# Altium footprint library Power_Footprints.PcbLib: 24 footprints (part 1 of 2)
Each footprint in its own frame and in the unit in brackets; x right, y up, seen from the top. Pads: shape width x height; smd on the part's side, far side on the other; paste and mask are expansions set on the pad; w line width, h text height; cw(c..) or ccw(c..) is an arc to the next point about the centre after c.
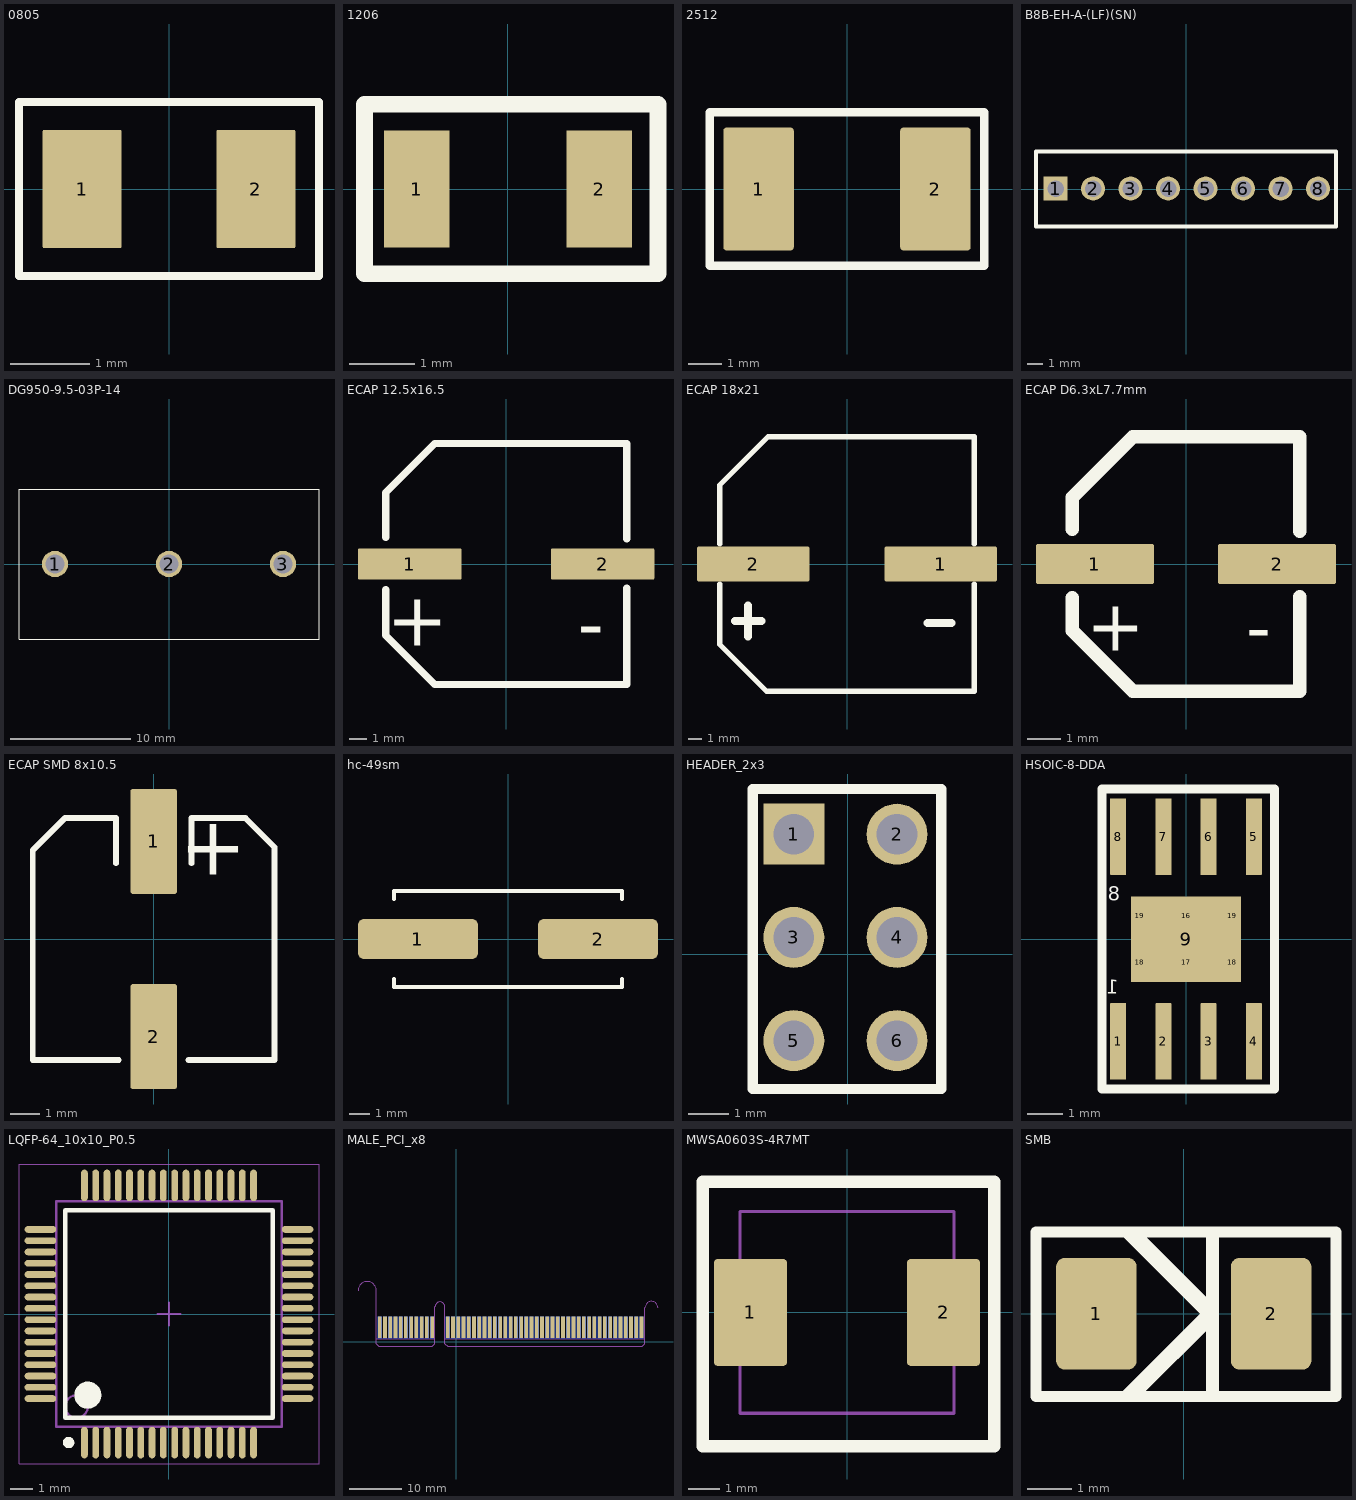
[diagram p0: the footprints below, top view; thin cyan lines are the x and y axes]

## 0805 [mm]
pads (2):
  rrect4% 1x1.5 smd: 1(-1.1,0) 2(1.1,0)
Top Overlay:
  lines w0.1: -1.9,-1.1 1.9,-1.1 1.9,1.1 -1.9,1.1 -1.9,-1.1

## 1206 [mm]
pads (2):
  rect 1x1.8 smd: 1(-1.4,0) 2(1.4,0)
Top Overlay:
  lines w0.254: -2.2,-1.3 2.3,-1.3 2.3,1.3 -2.2,1.3 -2.2,-1.3

## 2512 [mm] "Shunt"
pads (2):
  rrect10% 2.11x3.68 smd: 1(-2.645,0) 2(2.645,0)
Top Overlay:
  lines w0.254: -4.1,-2.3 4.1,-2.3 4.1,2.3 -4.1,2.3 -4.1,-2.3

## B8B-EH-A-(LF)(SN) [mm] "M-JST 8 pin"
pads (8):
  rect 1.6x1.6 hole 1.1: 1(-8.694,0.024)
  round 1.6 hole 1.1: 2(-6.194,0.024) 3(-3.694,0.024) 4(-1.194,0.024) 5(1.306,0.024) 6(3.806,0.024) 7(6.306,0.024) 8(8.806,0.024)
Top Overlay:
  lines w0.254: -10,-2.5 10,-2.5 10,2.5 -10,2.5 -10,-2.5

## DG950-9.5-03P-14 [mm]
pads (3):
  round 2.2 hole 1.6: 1(-9.5,0) 2(0,0) 3(9.5,0)
Top Overlay:
  lines w0.1: -12.5,-6.25 12.5,-6.25 12.5,6.25 -12.5,6.25 -12.5,-6.25

## ECAP 12.5x16.5 [mm]
pads (2):
  rrect10% 5.8x1.75 smd: 1(-5.4,0) 2(5.4,0)
Top Overlay:
  lines w0.4: -6.75,-1.425 -6.75,-4 -4,-6.75 6.75,-6.75 6.75,-1.35 ; -6.75,1.5 -6.75,4 -4,6.75 6.75,6.75 6.75,1.4
  text "+" at -3.25,-4.575 h3
  text "-" at 5.5,-4.8 h3

## ECAP 18x21 [mm] "470uF"
pads (2):
  rrect10% 8.4x2.6 smd: 1(7,0) 2(-7,0)
Top Overlay:
  lines w0.4: -9.5,-1.5 -9.5,-6 -6,-9.5 9.5,-9.5 9.5,-1.5 ; -9.5,1.5 -9.5,5.9 -5.9,9.5 9.5,9.5 9.5,1.5
  lines w0.6: -8.35,-4.25 -7.4,-4.25 -6.4,-4.25 ; -7.4,-5.4 -7.4,-3.1 ; 6,-4.4 7.8,-4.4

## ECAP D6.3xL7.7mm [mm]
pads (2):
  rrect10% 3.5x1.2 smd: 1(-2.7,0) 2(2.7,0)
Top Overlay:
  lines w0.4: -3.375,-1 -3.375,-1.975 -1.575,-3.775 3.375,-3.775 3.375,-0.975 ; -3.375,1.025 -3.375,1.975 -1.575,3.775 3.375,3.775 3.375,0.975
  text "+" at -1.225,-2.575 h1.5
  text "-" at 2.525,-2.625 h1.5

## ECAP SMD 8x10.5 [mm] "8x10.5"
pads (2):
  rrect10% 1.6x3.6 smd: 1(0,3.35) 2(0,-3.35)
Top Overlay:
  lines w0.2: -1.3,2.6 -1.3,4.15 -3.05,4.15 -4.15,3.05 -4.15,-4.15 -1.2,-4.15 ; 1.2,-4.15 3.112,-4.15 4.15,-4.15 4.15,0 4.15,3.15 3.15,4.15 1.3,4.15 1.3,2.6
  text "+" at 3.2,2.2 h2

## hc-49sm [mm]
pads (2):
  rrect30% 6x2 smd: 1(-4.5,0) 2(4.5,0)
Top Overlay:
  lines w0.2: -5.7,-2 -5.7,-2.4 5.7,-2.4 5.7,-2 ; -5.7,2 -5.7,2.4 5.7,2.4 5.7,2

## HEADER_2x3 [mm]
pads (6):
  rect 1.5x1.5 / inner round 1.5 / far side round 1.5 hole 1: 1(-1.33,2.955)
  round 1.5 hole 1: 2(1.21,2.955) 3(-1.33,0.415) 4(1.21,0.415) 5(-1.33,-2.125) 6(1.21,-2.125)
Top Overlay:
  lines w0.254: -2.337,-3.314 2.296,-3.314 2.296,4.068 -2.337,4.068 -2.337,-3.314

## HSOIC-8-DDA [mm] "HSIOC8 with thermal pad"
pads (15):
  rrect8% 0.45x2.15 smd: 1(-1.905,-2.875) 2(-0.635,-2.875) 3(0.635,-2.875) 4(1.905,-2.875) 5(1.905,2.875) 6(0.635,2.875) 7(-0.635,2.875) 8(-1.905,2.875)
  rrect1% 3.1x2.4 smd: 9(0,0)
  round 0.33 on Mech2: 16(0,0.65) 17(0,-0.65) 18(-1.3,-0.65) 18(1.3,-0.65) 19(-1.3,0.65) 19(1.3,0.65)
Top Overlay:
  lines w0.254: -2.355,-4.21 2.48,-4.21 2.48,4.215 -2.355,4.215 -2.355,-4.21
  text "8" at -1.845,1.08 h0.4
  text "1" at -1.89,-1.535 h0.4
_Notes_Layout:
  text "ADD VIAS" at 2.21,-1.49 h0.4

## LQFP-64_10x10_P0.5 [mm] "TSQFP, 64-Leads, Body 10,00x10,00mm, Pitch 0,50mm, IPC Medium Density"
height 1.6
pads (64):
  oval 0.3x1.4 smd: 1(-3.75,-5.7) 2(-3.25,-5.7) 3(-2.75,-5.7) 4(-2.25,-5.7) 5(-1.75,-5.7) 6(-1.25,-5.7) 7(-0.75,-5.7) 8(-0.25,-5.7) 9(0.25,-5.7) 10(0.75,-5.7) 11(1.25,-5.7) 12(1.75,-5.7) 13(2.25,-5.7) 14(2.75,-5.7) 15(3.25,-5.7) 16(3.75,-5.7) 33(3.75,5.7) 34(3.25,5.7) 35(2.75,5.7) 36(2.25,5.7) 37(1.75,5.7) 38(1.25,5.7) 39(0.75,5.7) 40(0.25,5.7) 41(-0.25,5.7) 42(-0.75,5.7) 43(-1.25,5.7) 44(-1.75,5.7) 45(-2.25,5.7) 46(-2.75,5.7) 47(-3.25,5.7) 48(-3.75,5.7)
  oval 1.4x0.3 smd: 17(5.7,-3.75) 18(5.7,-3.25) 19(5.7,-2.75) 20(5.7,-2.25) 21(5.7,-1.75) 22(5.7,-1.25) 23(5.7,-0.75) 24(5.7,-0.25) 25(5.7,0.25) 26(5.7,0.75) 27(5.7,1.25) 28(5.7,1.75) 29(5.7,2.25) 30(5.7,2.75) 31(5.7,3.25) 32(5.7,3.75) 49(-5.7,3.75) 50(-5.7,3.25) 51(-5.7,2.75) 52(-5.7,2.25) 53(-5.7,1.75) 54(-5.7,1.25) 55(-5.7,0.75) 56(-5.7,0.25) 57(-5.7,-0.25) 58(-5.7,-0.75) 59(-5.7,-1.25) 60(-5.7,-1.75) 61(-5.7,-2.25) 62(-5.7,-2.75) 63(-5.7,-3.25) 64(-5.7,-3.75)
Top Overlay:
  circle w0.25: c-4.45,-5.7 r0.125
  circle w0.6: c-3.6,-3.6 r0.3
  lines w0.2: -4.6,-4.6 4.6,-4.6 4.6,4.6 -4.6,4.6 -4.6,-4.6
Mechanical 13:
  circle w0.1: c-4.1,-4.1 r0.5
  lines w0.1: -5,-5 5,-5 5,5 -5,5 -5,-5
Mechanical 15:
  lines w0.05: -6.65,-6.65 6.65,-6.65 6.65,6.65 -6.65,6.65 -6.65,-6.65
  lines w0.1: -0.5,0 0.5,0 ; 0,-0.5 0,0.5
3D body: height 1.6, standoff 0.05, extent -5,-5 5,5

## MALE_PCI_x8 [mm]
pads (98):
  rrect10% 0.7x4.1 smd far side: A1(-14.65,2.75) A2(-13.65,2.75) A3(-12.65,2.75) A4(-11.65,2.75) A5(-10.65,2.75) A6(-9.65,2.75) A7(-8.65,2.75) A8(-7.65,2.75) A9(-6.65,2.75) A10(-5.65,2.75) A11(-4.65,2.75) A12(-1.65,2.75) A13(-0.65,2.75) A14(0.35,2.75) A15(1.35,2.75) A16(2.35,2.75) A17(3.35,2.75) A18(4.35,2.75) A19(5.35,2.75) A20(6.35,2.75) A21(7.35,2.75) A22(8.35,2.75) A23(9.35,2.75) A24(10.35,2.75) A25(11.35,2.75) A26(12.35,2.75) A27(13.35,2.75) A28(14.35,2.75) A29(15.35,2.75) A30(16.35,2.75) A31(17.35,2.75) A32(18.35,2.75) A33(19.35,2.75) A34(20.35,2.75) A35(21.35,2.75) A36(22.35,2.75) A37(23.35,2.75) A38(24.35,2.75) A39(25.35,2.75) A40(26.35,2.75) A41(27.35,2.75) A42(28.35,2.75) A43(29.35,2.75) A44(30.35,2.75) A45(31.35,2.75) A46(32.35,2.75) A47(33.35,2.75) A48(34.35,2.75) A49(35.35,2.75)
  rrect10% 0.7x4.1 smd: B1(-14.65,2.75) B2(-13.65,2.75) B3(-12.65,2.75) B4(-11.65,2.75) B5(-10.65,2.75) B6(-9.65,2.75) B7(-8.65,2.75) B8(-7.65,2.75) B9(-6.65,2.75) B10(-5.65,2.75) B11(-4.65,2.75) B12(-1.65,2.75) B13(-0.65,2.75) B14(0.35,2.75) B15(1.35,2.75) B16(2.35,2.75) B17(3.35,2.75) B18(4.35,2.75) B19(5.35,2.75) B20(6.35,2.75) B21(7.35,2.75) B22(8.35,2.75) B23(9.35,2.75) B24(10.35,2.75) B25(11.35,2.75) B26(12.35,2.75) B27(13.35,2.75) B28(14.35,2.75) B29(15.35,2.75) B30(16.35,2.75) B31(17.35,2.75) B32(18.35,2.75) B33(19.35,2.75) B34(20.35,2.75) B35(21.35,2.75) B36(22.35,2.75) B37(23.35,2.75) B38(24.35,2.75) B39(25.35,2.75) B40(26.35,2.75) B41(27.35,2.75) B42(28.35,2.75) B43(29.35,2.75) B44(30.35,2.75) B45(31.35,2.75) B46(32.35,2.75) B47(33.35,2.75) B48(34.35,2.75) B49(35.35,2.75)
Mechanical 1:
  lines w0.1: -18.8,9.75 cw(c-17.05,9.75) -15.3,9.75 -15.3,0.7 -15.3,-0.4 -14.8,-0.9 -4.6,-0.9 -4.1,-0.4 -4.1,6.65 cw(c-3.15,6.65) -2.2,6.65 -2.2,-0.4 -1.7,-0.9 35.5,-0.9 36,-0.4 ; -15.299,0.602 -15.296,0.6 -4.1,0.6 ; -2.2,0.6 36,0.6 ; 38.5,6.45 ccw(c37.25,6.45) 36,6.45 36,0.6 ; 36,-0.4 36,-0.4 ; 36,-0.4 36,0.6 ; 36,-0.4 36,-0.4

## MWSA0603S-4R7MT [mm] "SMD,7x6.6mm"
pads (2):
  rrect10% 2.35x3.43 smd: 1(-3.1,0) 2(3.1,0)
Top Overlay:
  lines w0.4: -4.625,-4.3 4.725,-4.3 4.725,4.2 -4.625,4.2 -4.625,-4.3
Mechanical 1:
  lines w0.1: -3.43,-3.235 3.43,-3.235 3.43,3.235 -3.43,3.235 -3.43,-3.235

## SMB [mm]
pads (2):
  rrect22% 1.8x2.5 smd: 1(-1.95,0) 2(1.95,0)
Top Overlay:
  rectangle: 0.5,-1.819 0.786,1.825
  lines w0.2: -1.35,-1.85 0.534,0.034 0.534,0.202 -1.096,1.832 ; -1.338,1.837 0.5,0 0.6,0 ; -1.103,-1.847 0.69,-0.053
  lines w0.254: -3.3,-1.85 3.4,-1.85 3.4,1.825 -3.3,1.825 -3.3,-1.85